# EAGLE library part TPA2008D2 (library TPA2008D3)
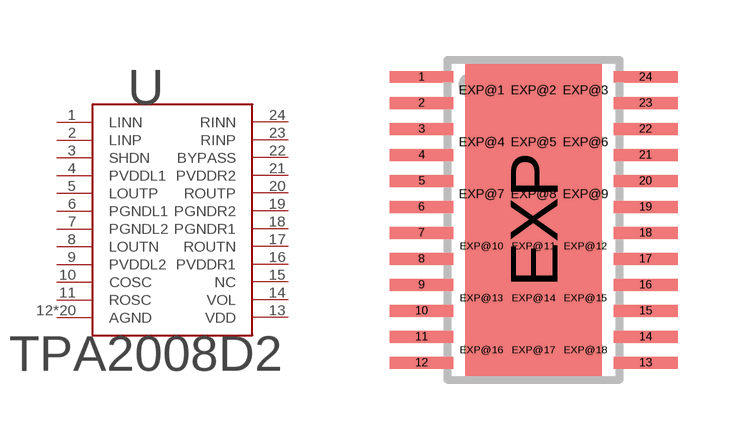
[diagram p0: symbol with the pads of PWP-TSSOP24; footprint PWP-TSSOP24]

Designator prefix -

## TPA2008D2  [PWP-TSSOP24]
1  LINN
2  LINP
3  SHDN
4  PVDDL1
5  LOUTP
6  PGNDL1
7  PGNDL2
8  LOUTN
9  PVDDL2
10  COSC
11  ROSC
12  AGND
13  VDD
14  VOL
15  NC
16  PVDDR1
17  ROUTN
18  PGNDR1
19  PGNDR2
20  ROUTP
21  PVDDR2
22  BYPASS
23  RINP
24  RINN
EXP  AGND
EXP@1  AGND
EXP@2  AGND
EXP@3  AGND
EXP@4  AGND
EXP@5  AGND
EXP@6  AGND
EXP@7  AGND
EXP@8  AGND
EXP@9  AGND
EXP@10  AGND
EXP@11  AGND
EXP@12  AGND
EXP@13  AGND
EXP@14  AGND
EXP@15  AGND
EXP@16  AGND
EXP@17  AGND
EXP@18  AGND

## Footprint PWP-TSSOP24 (pad centres in mm)
PWP (R-PDSO-G24) PowerPAD TM Source: http://focus.ti.com/lit/ds/symlink/tpa3123d2.pdf
smd 1.6 x 0.3: 1 -2.8,3.575; 2 -2.8,2.925; 3 -2.8,2.275; 4 -2.8,1.625; 5 -2.8,0.975; 6 -2.8,0.325; 7 -2.8,-0.325; 8 -2.8,-0.975; 9 -2.8,-1.625; 10 -2.8,-2.275; 11 -2.8,-2.925; 12 -2.8,-3.575; 13 2.8,-3.575; 14 2.8,-2.925; 15 2.8,-2.275; 16 2.8,-1.625; 17 2.8,-0.975; 18 2.8,-0.325; 19 2.8,0.325; 20 2.8,0.975; 21 2.8,1.625; 22 2.8,2.275; 23 2.8,2.925; 24 2.8,3.575
smd 3.4 x 7.8: EXP 0,0
drill 0.35 pad 0.7: EXP@1 -1.3,3.25; EXP@2 0,3.25; EXP@3 1.3,3.25; EXP@4 -1.3,1.95; EXP@5 0,1.95; EXP@6 1.3,1.95; EXP@7 -1.3,0.65; EXP@8 0,0.65; EXP@9 1.3,0.65; EXP@10 -1.3,-0.65; EXP@11 0,-0.65; EXP@12 1.3,-0.65; EXP@13 -1.3,-1.95; EXP@14 0,-1.95; EXP@15 1.3,-1.95; EXP@16 -1.3,-3.25; EXP@17 0,-3.25; EXP@18 1.3,-3.25